# EAGLE library part MBT3946 (library transistor-pnp)
TRANS NPN/PNP 40V 0.2A
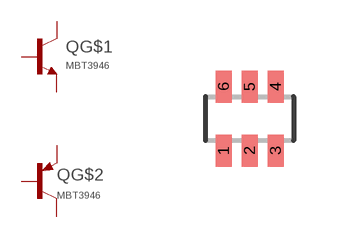
[diagram p5: symbol with the pads of SOT363; footprint SOT363]

Designator prefix Q; gates G$1=NPN G$2=PNP

## MBT3946 (DIGIKEY: MBT3946DW1T1GOSCT-ND; MFR: ON Semiconductor; MPN: MBT3946DW1T1G)  [SOT363]
1  G$1:E  pas
2  G$1:B  pas
3  G$2:C  pas
4  G$2:E  pas
5  G$2:B  pas
6  G$1:C  pas

## Footprint SOT363 (pad centres in mm)
Small Outline Transistor; 6 leads
smd 0.4 x 0.8: 1 -0.65,-0.8; 2 0,-0.8; 3 0.65,-0.8; 4 0.65,0.8; 5 0,0.8; 6 -0.65,0.8